# EAGLE library part ADRF5019 (library Analog Devices)
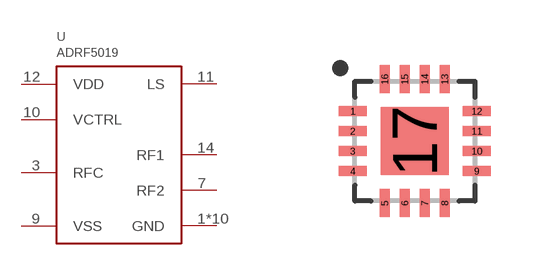
[diagram p61: symbol with the pads of LFCSP16; footprint LFCSP16]

Designator prefix U

## ADRF5019  [LFCSP16]
1  GND
2  GND
3  RFC
4  GND
5  GND
6  GND
7  RF2
8  GND
9  VSS
10  VCTRL
11  LS
12  VDD
13  GND
14  RF1
15  GND
16  GND
17  GND

## Footprint LFCSP16 (pad centres in mm)
smd 0.7 x 0.25: 1 -1.55,0.75; 2 -1.55,0.25; 3 -1.55,-0.25; 4 -1.55,-0.75; 9 1.55,-0.75; 10 1.55,-0.25; 11 1.55,0.25; 12 1.55,0.75
smd 0.25 x 0.7: 5 -0.75,-1.55; 6 -0.25,-1.55; 7 0.25,-1.55; 8 0.75,-1.55; 13 0.75,1.55; 14 0.25,1.55; 15 -0.25,1.55; 16 -0.75,1.55
smd 1.7 x 1.7: 17 0,0